# Altium schematic symbol library Copy of solar_chip.SCHLIB: 1 symbol
Pins are listed as number, name and electrical type; pins without a type are passive.

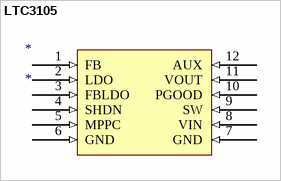
[diagram p0: symbol LTC3105]

## LTC3105
designator *
footprint LTC3105 (SOIC, 12-Leads, Body 2.07x1.55mm, Pitch 1.27mm, IPC Medium Density)
pins: 1 FB (in), 2 LDO (in), 3 FBLDO (in), 4 SHDN (in), 5 MPPC (in), 6 GND (in), 7 GND (in), 8 VIN (in), 9 SW (in), 10 PGOOD (in), 11 VOUT (in), 12 AUX (in)